# EAGLE library part NOKIA_SCREEN (library HomeMade)
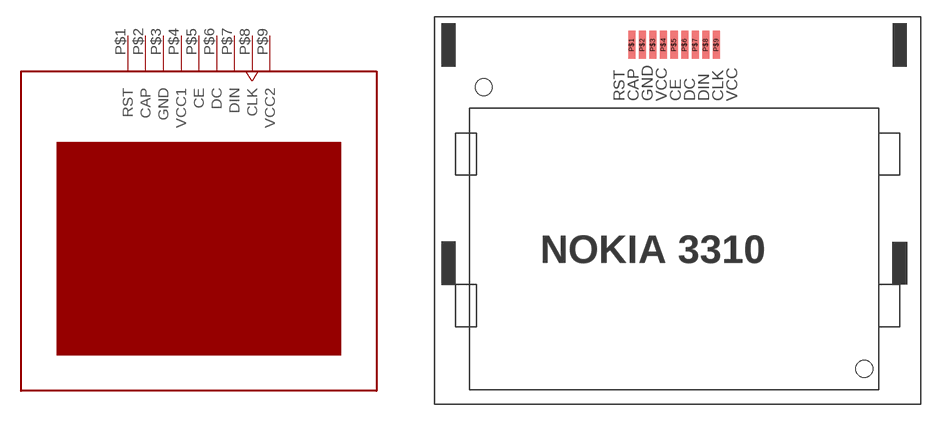
[diagram p5: symbol with the pads of NOKIA_SCREEN; footprint NOKIA_SCREEN]

Designator prefix -

## NOKIA_SCREEN  [NOKIA_SCREEN]
P$1  RST  in
P$2  CAP  pas
P$3  GND  pwr
P$4  VCC1  pwr
P$5  CE  in
P$6  DC  in
P$7  DIN  in
P$8  CLK  in
P$9  VCC2  pwr

## Footprint NOKIA_SCREEN (pad centres in mm)
smd 0.635 x 2.54: P$1 17.78,32.385; P$2 18.733,32.385; P$3 19.685,32.385; P$4 20.637,32.385; P$5 21.59,32.385; P$6 22.543,32.385; P$7 23.495,32.385; P$8 24.448,32.385; P$9 25.4,32.385
hole 1.524 at 38.735,3.175
hole 1.524 at 4.445,28.575